# EAGLE library part NA-5W-K (library NA-5W-K)
Low Signal Relays - PCB Mini Signal 5VDC Source: Datasheet <http://www.mouser.com/datasheet/2/164/na-914632.pdf>
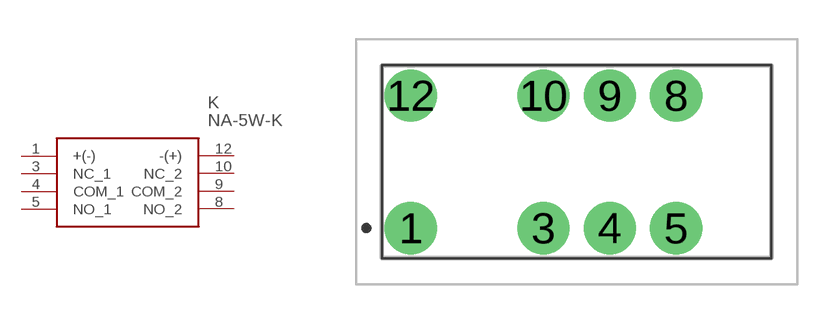
[diagram p0: symbol with the pads of NA5WK; footprint NA5WK]

Designator prefix K

## NA-5W-K (ARROW_PART_NUMBER: NA-5W-K; ARROW_PRICE-STOCK: https://www.arrow.com/en/products/na-5w-k/fujitsu?region=nac; DESCRIPTION: Low Signal Relays - PCB Mini Signal 5VDC; HEIGHT: 10mm; MANUFACTURER_NAME: FUJITSU; MANUFACTURER_PART_NUMBER: NA-5W-K; MOUSER_PART_NUMBER: 817-NA-5W-K; MOUSER_PRICE-STOCK: https://www.mouser.co.uk/ProductDetail/Fujitsu/NA-5W-K?qs=MnnQ62GSWuG58RA8pCByRg%3D%3D)  [NA5WK]
1  +(-)
3  NC_1
4  COM_1
5  NO_1
8  NO_2
9  COM_2
10  NC_2
12  -(+)

## Footprint NA5WK (pad centres in mm)
NA-5W-K-2
drill 0.8 pad 2: 1 0,0; 3 5.08,0; 4 7.62,0; 5 10.16,0; 8 10.16,5.08; 9 7.62,5.08; 10 5.08,5.08; 12 0,5.08